# Altium schematic symbol library SD0805S020S1R0.SchLib: 1 symbol
Pins are listed as number, name and electrical type; pins without a type are passive.

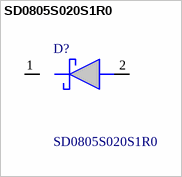
[diagram p0: symbol SD0805S020S1R0]

## SD0805S020S1R0
designator D?
AVX - SD0805S020S1R0 - DIODE, SCHOTTKY, 1A, 20V, SOD-323; Geometry.Height: 1mm; Manufacturer_Name: AVX; Manufacturer_Part_Number: SD0805S020S1R0; Mouser Part Number: 581-SD0805S020S1R0; Mouser Price/Stock: https://www.mouser.co.uk/ProductDetail/AVX-Kyocera/SD0805S020S1R0?qs=jCA%252BPfw4LHbpkAoSnwrdjw%3D%3D; Arrow Part Number: SD0805S020S1R0; Arrow Price/Stock: https://www.arrow.com/en/products/sd0805s020s1r0/avx?region=nac; Datasheet Link: https://componentsearchengine.com/Datasheets/1/SD0805S020S1R0.pdf
footprint SD0805S020S1R0
pins: 1 K, 2 A